# EAGLE library part NHD_2.7 (library Kolja)
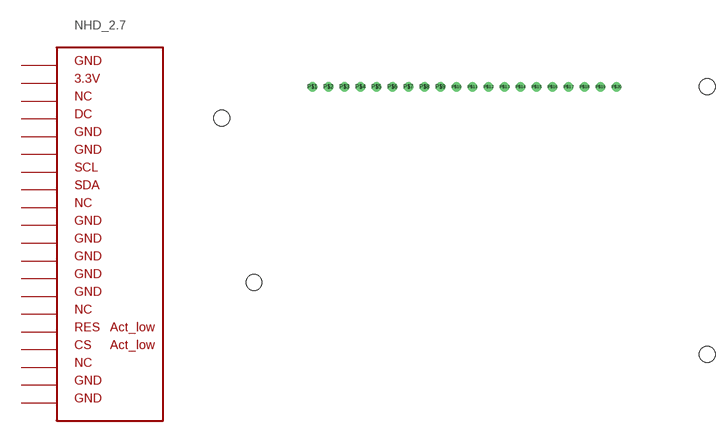
[diagram p4: symbol with the pads of NHD_2.7; footprint NHD_2.7]

Designator prefix -

## NHD_2.7  [NHD_2.7]
P$1  GND10  pwr
P$2  GND9  pwr
P$3  NC4
P$4  CS
P$5  RES
P$6  NC2
P$7  GND8  pwr
P$8  GND7  pwr
P$9  GND6  pwr
P$10  GND5  pwr
P$11  GND4  pwr
P$12  NC3
P$13  SDA
P$14  SCL
P$15  GND3  pwr
P$16  GND2  pwr
P$17  DC
P$18  NC
P$19  VDD  pwr
P$20  GND  pwr

## Footprint NHD_2.7 (pad centres in mm)
drill 1: P$1 -110.13,24.5; P$2 -107.59,24.5; P$3 -105.05,24.5; P$4 -102.51,24.5; P$5 -99.97,24.5; P$6 -97.43,24.5; P$7 -94.89,24.5; P$8 -92.35,24.5; P$9 -89.81,24.5; P$10 -87.27,24.5; P$11 -84.73,24.5; P$12 -82.19,24.5; P$13 -79.65,24.5; P$14 -77.11,24.5; P$15 -74.57,24.5; P$16 -72.03,24.5; P$17 -69.49,24.5; P$18 -66.95,24.5; P$19 -64.41,24.5; P$20 -61.87,24.5
hole 2.5 at -124.5,19.5
hole 2.5 at -119.4,-6.6
hole 2.5 at -47.5,-18
hole 2.5 at -47.5,24.5